# EAGLE library part FPT-1.0.37 (library densikit)
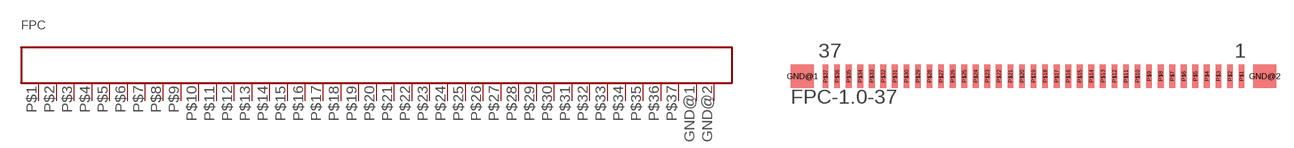
[diagram p6: symbol with the pads of FPC-1.0-37; footprint FPC-1.0-37]

Designator prefix FPC

## FPT-1.0.37  [FPC-1.0-37]
GND@1  GND  pwr
GND@2  GND  pwr
P$1  P$1
P$2  P$2
P$3  P$3
P$4  P$4
P$5  P$5
P$6  P$6
P$7  P$7
P$8  P$8
P$9  P$9
P$10  P$10
P$11  P$11
P$12  P$12
P$13  P$13
P$14  P$14
P$15  P$15
P$16  P$16
P$17  P$17
P$18  P$18
P$19  P$19
P$20  P$20
P$21  P$21
P$22  P$22
P$23  P$23
P$24  P$24
P$25  P$25
P$26  P$26
P$27  P$27
P$28  P$28
P$29  P$29
P$30  P$30
P$31  P$31
P$32  P$32
P$33  P$33
P$34  P$34
P$35  P$35
P$36  P$36
P$37  P$37

## Footprint FPC-1.0-37 (pad centres in mm)
smd 2 x 2: GND@1 -20.6,0; GND@2 19.4,0
smd 0.5 x 2: P$1 17.4,0; P$2 16.4,0; P$3 15.4,0; P$4 14.4,0; P$5 13.4,0; P$6 12.4,0; P$7 11.4,0; P$8 10.4,0; P$9 9.4,0; P$10 8.4,0; P$11 7.4,0; P$12 6.4,0; P$13 5.4,0; P$14 4.4,0; P$15 3.4,0; P$16 2.4,0; P$17 1.4,0; P$18 0.4,0; P$19 -0.6,0; P$20 -1.6,0; P$21 -2.6,0; P$22 -3.6,0; P$23 -4.6,0; P$24 -5.6,0; P$25 -6.6,0; P$26 -7.6,0; P$27 -8.6,0; P$28 -9.6,0; P$29 -10.6,0; P$30 -11.6,0; P$31 -12.6,0; P$32 -13.6,0; P$33 -14.6,0; P$34 -15.6,0; P$35 -16.6,0; P$36 -17.6,0; P$37 -18.6,0